# Altium schematic symbol library 2DS627A OSM.Schlib: 1 symbol
Pins are listed as number, name and electrical type; pins without a type are passive.

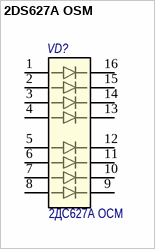
[diagram p0: symbol 2DS627A OSM]

## 2DS627A OSM
designator VD?  Наименование: 2ДС627А ОСМ  (hidden comment: 2DS627A OSM)
Назначение: Диодная сборка
footprint 2ДС627А
pins: 1 1A, 2 1B, 3 1C, 4 1D, 5 1E, 6 1F, 7 1G, 8 1H, 9 2G, 10 2G, 11 2F, 12 2E, 13 2D, 14 2C, 15 2B, 16 2A